# Altium footprint library PCB1.PcbLib: 74 footprints (part 1 of 5)
Each footprint in its own frame and in the unit in brackets; x right, y up, seen from the top. Pads: shape width x height; smd on the part's side, far side on the other; paste and mask are expansions set on the pad; w line width, h text height; cw(c..) or ccw(c..) is an arc to the next point about the centre after c.
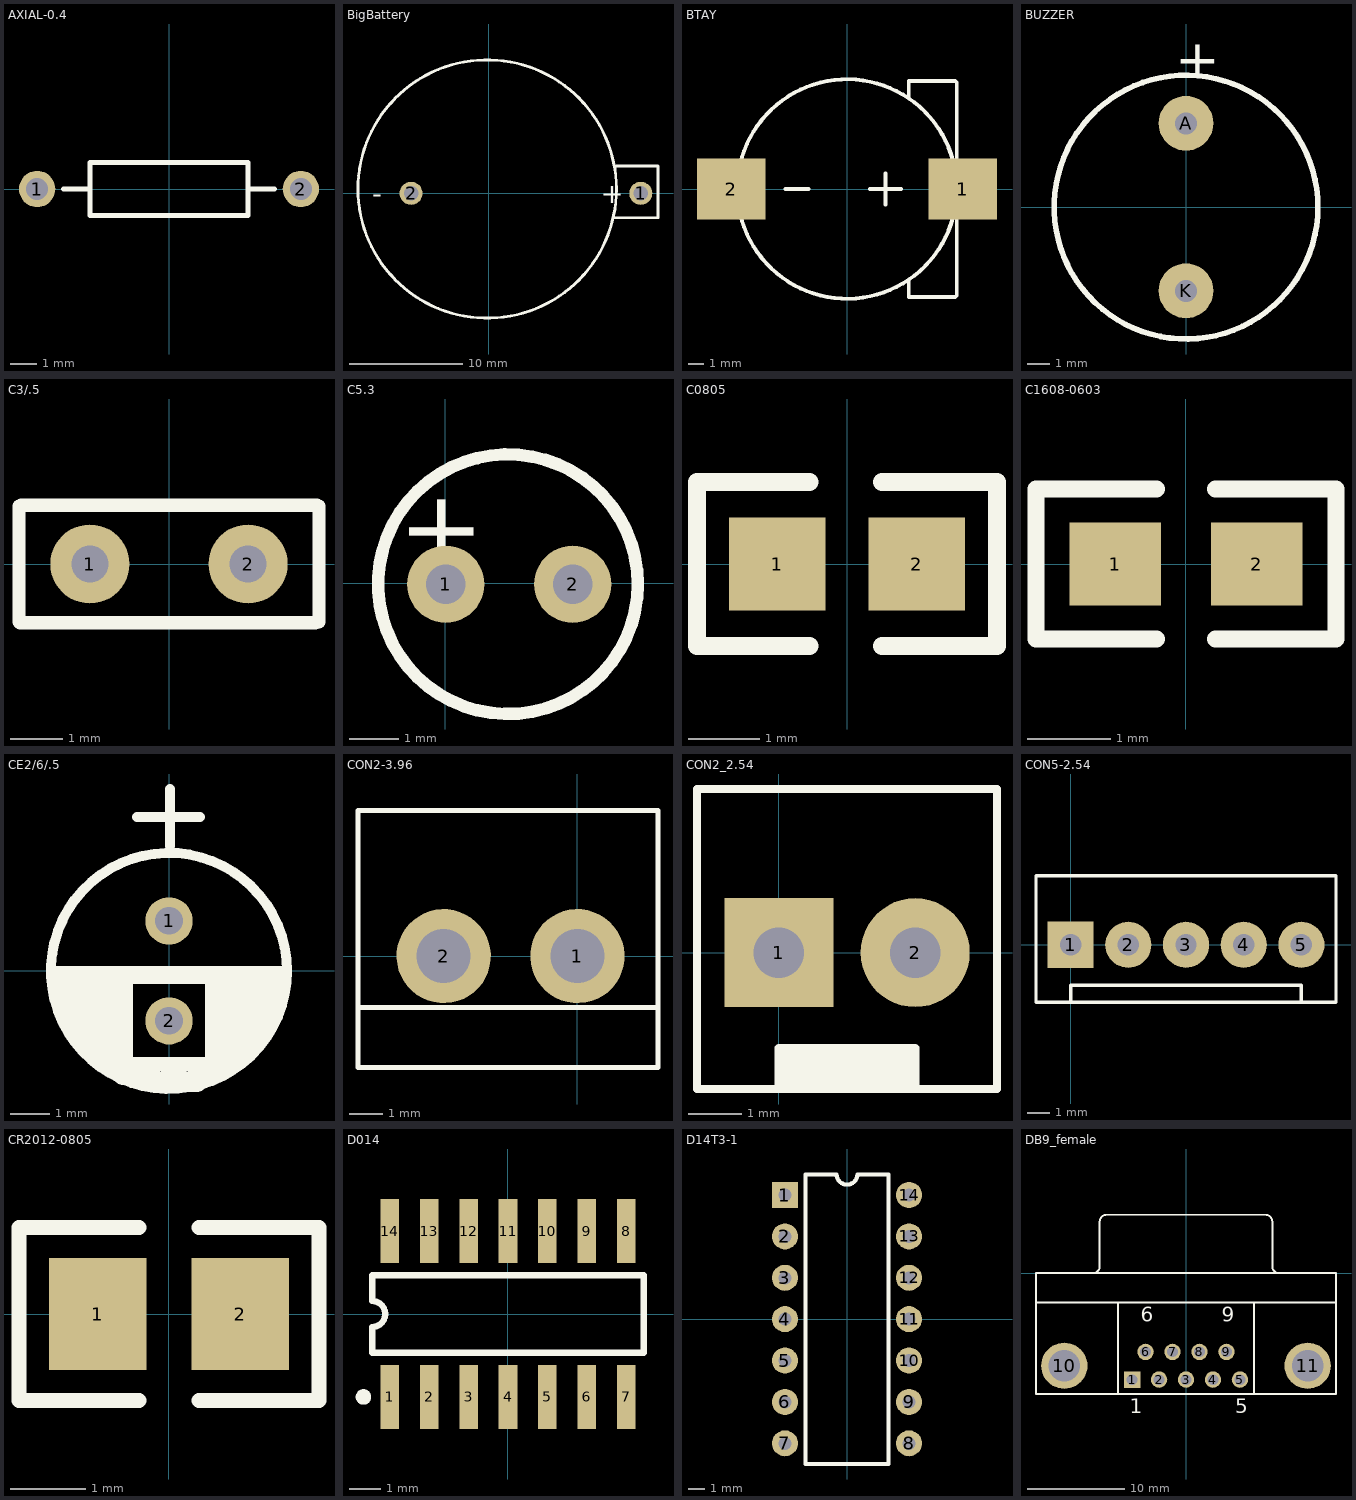
[diagram p0: the footprints below, top view; thin cyan lines are the x and y axes]

## AXIAL-0.4 [mm]
pads (2):
  round 1.4 hole 0.85: 1(-5.08,0) 2(5.08,0)
Top Overlay:
  lines w0.2: -4.064,0 -3.048,0 ; 3.048,0 4.064,0 ; -3.048,-1.016 -3.048,1.016 3.048,1.016 3.048,-1.016 -3.048,-1.016

## BigBattery [mil] "KKK measured"
pads (2):
  round 80 hole 50: 1(530,0) 2(-270,0)
Top Overlay:
  circle w10: c-5,15 r450
  lines w10: 440,-85 590,-85 590,95 445,95
  text "-" at -405,-35 h70
  text "+" at 390,-35 h70

## BTAY [mm]
pads (2):
  rect 4.5x4 smd: 1(7.62,0) 2(-7.62,0)
Top Overlay:
  circle w0.254: c0,0 r7.22
  lines w0.254: -4.064,0 -2.54,0 ; 1.524,0 3.556,0 ; 2.54,-1.016 2.54,1.016 ; 4.064,-6.096 4.064,-7.112 7.112,-7.112 7.22,-7.004 7.22,0 7.22,7.004 7.112,7.112 4.064,7.112 4.064,6.096

## BUZZER [mil]
height 70.87
pads (2):
  round 98 hole 39.37: A(0,150) K(0,-150)
Top Overlay:
  circle w10: c0,0 r236.22
  text "+" at -19,231 h70

## C3/.5 [mm]
pads (2):
  round 1.5 hole 0.7: 1(-1.5,0) 2(1.5,0)
Top Overlay:
  lines w0.254: -2.845,-1.1 -2.845,1.1 ; -2.825,-1.118 2.775,-1.118 ; -2.8,1.118 2.8,1.118 ; 2.845,-1.1 2.845,1.1

## C5.3 [mil]
pads (2):
  round 62 hole 31.5: 1(0.39,-0.55) 2(102.39,-0.55)
Top Overlay:
  circle w10: c50.39,-0.55 r104.33
  text "+" at -29.13,76.22 h60

## C0805 [mm]
pads (2):
  rect 1.35x1.3 smd: 1(-0.975,0) 2(0.975,0)
Top Overlay:
  lines w0.254: -0.523,-1.15 -2.1,-1.15 -2.1,1.15 -0.523,1.15 ; 0.494,-1.15 2.1,-1.15 2.1,1.15 0.494,1.15

## C1608-0603 [mm]
pads (2):
  rect 1.1x1 smd: 1(-0.85,0) 2(0.85,0)
Top Overlay:
  lines w0.2: -0.35,-0.9 -1.8,-0.9 -1.8,0.9 -0.35,0.9 ; 0.35,-0.9 1.8,-0.9 1.8,0.9 0.35,0.9

## CE2/6/.5 [mm]
pads (2):
  round 1.2 hole 0.7: 1(0,1.27) 2(0,-1.27)
Top Overlay:
  circle w0.254: c0,0 r3
  lines w0.127: -1.854,-1.321 -1.854,-1.092 ; 0.025,-2.616 0.305,-2.616 0.508,-2.413 0.127,-2.413 ; 0.127,-2.515 0.127,-2.413 ; -1.854,-1.092 -1.854,-0.7 ; -1.854,-1.092 -1.676,-0.914 ; -1.854,-1.092 -1.854,-0.7 ; -1.854,-1.092 -2.032,-0.914 -1.676,-0.914 ; -1.854,-0.7 -1.676,-0.878 -1.676,-0.914 ; -1.854,-0.7 -1.72,-0.566 -2.032,-0.254 -1.524,-0.762 ; -1.676,-0.914 -1.524,-0.762 ; -1.524,-0.762 -2.032,-0.762 -1.524,-0.762 ; -0.178,-2.413 -0.508,-2.413 -0.178,-2.413 ; -0.178,-2.413 -0.332,-2.568 -0.487,-2.413 0.127,-2.413 ; 0.127,-2.413 0.305,-2.591 0.127,-2.413
  lines w0.2: -1.372,-1.473 -1.372,-1.803 -1.016,-2.159 -1.016,-0.229 -1.143,-0.356 -1.143,-2.286 0.965,-2.286 1.016,-2.235 1.016,-2.413 1.016,-0.254 0.991,-0.229 1.372,-0.229 1.473,-0.33 1.473,-0.381 1.321,-0.229 -1.372,-0.229
  lines w0.254: -3,0 3,0 ; -1.143,-2.286 -1.143,0 ; -1.016,-2.413 -0.889,-2.413 1.143,-2.413 ; -0.813,3.912 0.787,3.912 ; -0.127,-2.413 -0.127,-2.464 0.025,-2.616 0.025,-2.413 ; 0.025,3.175 0.025,4.623
  lines w0.381: 1.27,-2.235 1.27,-0.127
  lines w0.508: -2.718,-0.305 -2.718,-0.762 -2.362,-1.118 -2.362,-1.549 -1.88,-2.032 -1.778,-2.032 -1.168,-2.642 -0.533,-2.642 -0.356,-2.819 0.711,-2.819 0.635,-2.743 0.813,-2.743 1.27,-2.286 1.6,-2.286 2.21,-1.676 2.21,-1.499 2.591,-1.118 2.591,-0.787 2.743,-0.635 2.743,-0.305 ; -2.413,-0.635 -2.413,-0.254 -1.397,-0.254 ; -2.286,-0.889 -1.854,-1.321 -1.854,-1.626 ; -2.032,-1.397 -2.032,-0.381 ; -1.524,-1.778 -1.524,-0.381 -1.397,-0.254 ; -1.397,-2.032 -1.397,-0.254 ; -1.372,-0.229 -1.397,-0.254 ; 1.346,-2.083 1.753,-1.676 2.032,-1.397 2.032,-0.381 ; 1.346,-0.203 1.372,-0.229 2.184,-0.229 ; 1.524,-1.778 1.524,-0.381 ; 2.235,-1.118 2.235,-0.813 2.413,-0.635 2.413,-0.254

## CON2-3.96 [mil]
pads (2):
  round 110 hole 63: 1(0,0) 2(-156,0)
Top Overlay:
  lines w6: -256,-60 94,-60 ; -256,-130 -256,170 94,170 94,-130 -256,-130

## CON2_2.54 [mil]
pads (2):
  rect 80x80 hole 37: 1(0,0)
  round 80 hole 37: 2(100,0)
Top Overlay:
  rectangle: 0.41,-99.85 100.41,-69.85
  lines w6: 0,-100 0,-70 100,-70 100,-100 ; -60,-100 -60,120 160,120 160,-100 -60,-100

## CON5-2.54 [mil]
pads (5):
  rect 80x80 hole 37: 1(0,0)
  round 80 hole 37: 2(100,0) 3(200,0) 4(300,0) 5(400,0)
Top Overlay:
  lines w6: 0,-100 0,-70 400,-70 400,-100 ; -60,-100 -60,120 460,120 460,-100 -60,-100

## CR2012-0805 [mm]
height 2.13
pads (2):
  rect 1.3x1.5 smd: 1(-0.95,0) 2(0.95,0)
Top Overlay:
  lines w0.2: -0.4,-1.15 -2,-1.15 -2,1.15 -0.4,1.15 ; 0.4,-1.15 2,-1.15 2,1.15 0.4,1.15

## D014 [mm] "Small Outline; 14 Leads; Body Width 3.9 mm; Pitch 1.27 mm"
height 1.75
pads (14):
  rect 0.6x2.05 smd: 1(-3.81,-2.675) 2(-2.54,-2.675) 3(-1.27,-2.675) 4(0,-2.675) 5(1.27,-2.675) 6(2.54,-2.675) 7(3.81,-2.675) 8(3.81,2.675) 9(2.54,2.675) 10(1.27,2.675) 11(0,2.675) 12(-1.27,2.675) 13(-2.54,2.675) 14(-3.81,2.675)
Top Overlay:
  circle w0.25: c-4.66,-2.675 r0.125
  lines w0.2: -4.375,-1.25 -4.375,-0.417 ccw(c-4.375,0) -4.375,0.417 -4.375,1.25 4.375,1.25 4.375,-1.25 -4.375,-1.25

## D14T3-1 [mm]
pads (14):
  rect 1.6x1.6 hole 0.8: 1(-3.81,7.62)
  round 1.6 hole 0.8: 2(-3.81,5.08) 3(-3.81,2.54) 4(-3.81,0) 5(-3.81,-2.54) 6(-3.81,-5.08) 7(-3.81,-7.62) 8(3.81,-7.62) 9(3.81,-5.08) 10(3.81,-2.54) 11(3.81,0) 12(3.81,2.54) 13(3.81,5.08) 14(3.81,7.62)
Top Overlay:
  lines w0.254: -2.54,-8.89 2.54,-8.89 2.54,8.89 0.635,8.89 cw(c0,8.89) -0.635,8.89 -2.54,8.89 -2.54,-8.89

## DB9_female [mm] "Connector; D Subminiature; 9 Position; Right Angle; Pitch 1.385 mm"
height 12.75
pads (11):
  rect 1.69x1.69 hole 1.09: 1(-5.54,-10.92)
  round 1.69 hole 1.09: 2(-2.77,-10.92) 3(0,-10.92) 4(2.77,-10.92) 5(5.54,-10.92) 6(-4.155,-8.08) 7(-1.385,-8.08) 8(1.385,-8.08) 9(4.155,-8.08)
  round 4.76 hole 3.26: 10(-12.495,-9.5) 11(12.495,-9.5)
Top Overlay:
  lines w0.2: -15.4,-3 15.4,-3 ; -9.56,0.005 ccw(c-9.56,0.7) -8.865,0.7 -8.865,5.3 ; -8.86,5.305 cw(c-8.165,5.305) -8.165,6 8.165,6 cw(c8.165,5.305) 8.86,5.305 ; -7,-12.4 -7,-3 ; 7,-12.4 7,-3 ; 8.865,5.3 8.865,0.7 ccw(c9.56,0.7) 9.56,0.005 ; -15.4,-12.4 -15.4,0 15.4,0 15.4,-12.4 -15.4,-12.4
  text "1" at -5.79,-14.375 h1.5
  text "5" at 5.04,-14.375 h1.5
  text "9" at 3.655,-4.975 h1.5
  text "6" at -4.655,-4.975 h1.5